# Altium footprint library Inductor.PcbLib: 13 footprints
Each footprint in its own frame and in the unit in brackets; x right, y up, seen from the top. Pads: shape width x height; smd on the part's side, far side on the other; paste and mask are expansions set on the pad; w line width, h text height; cw(c..) or ccw(c..) is an arc to the next point about the centre after c.
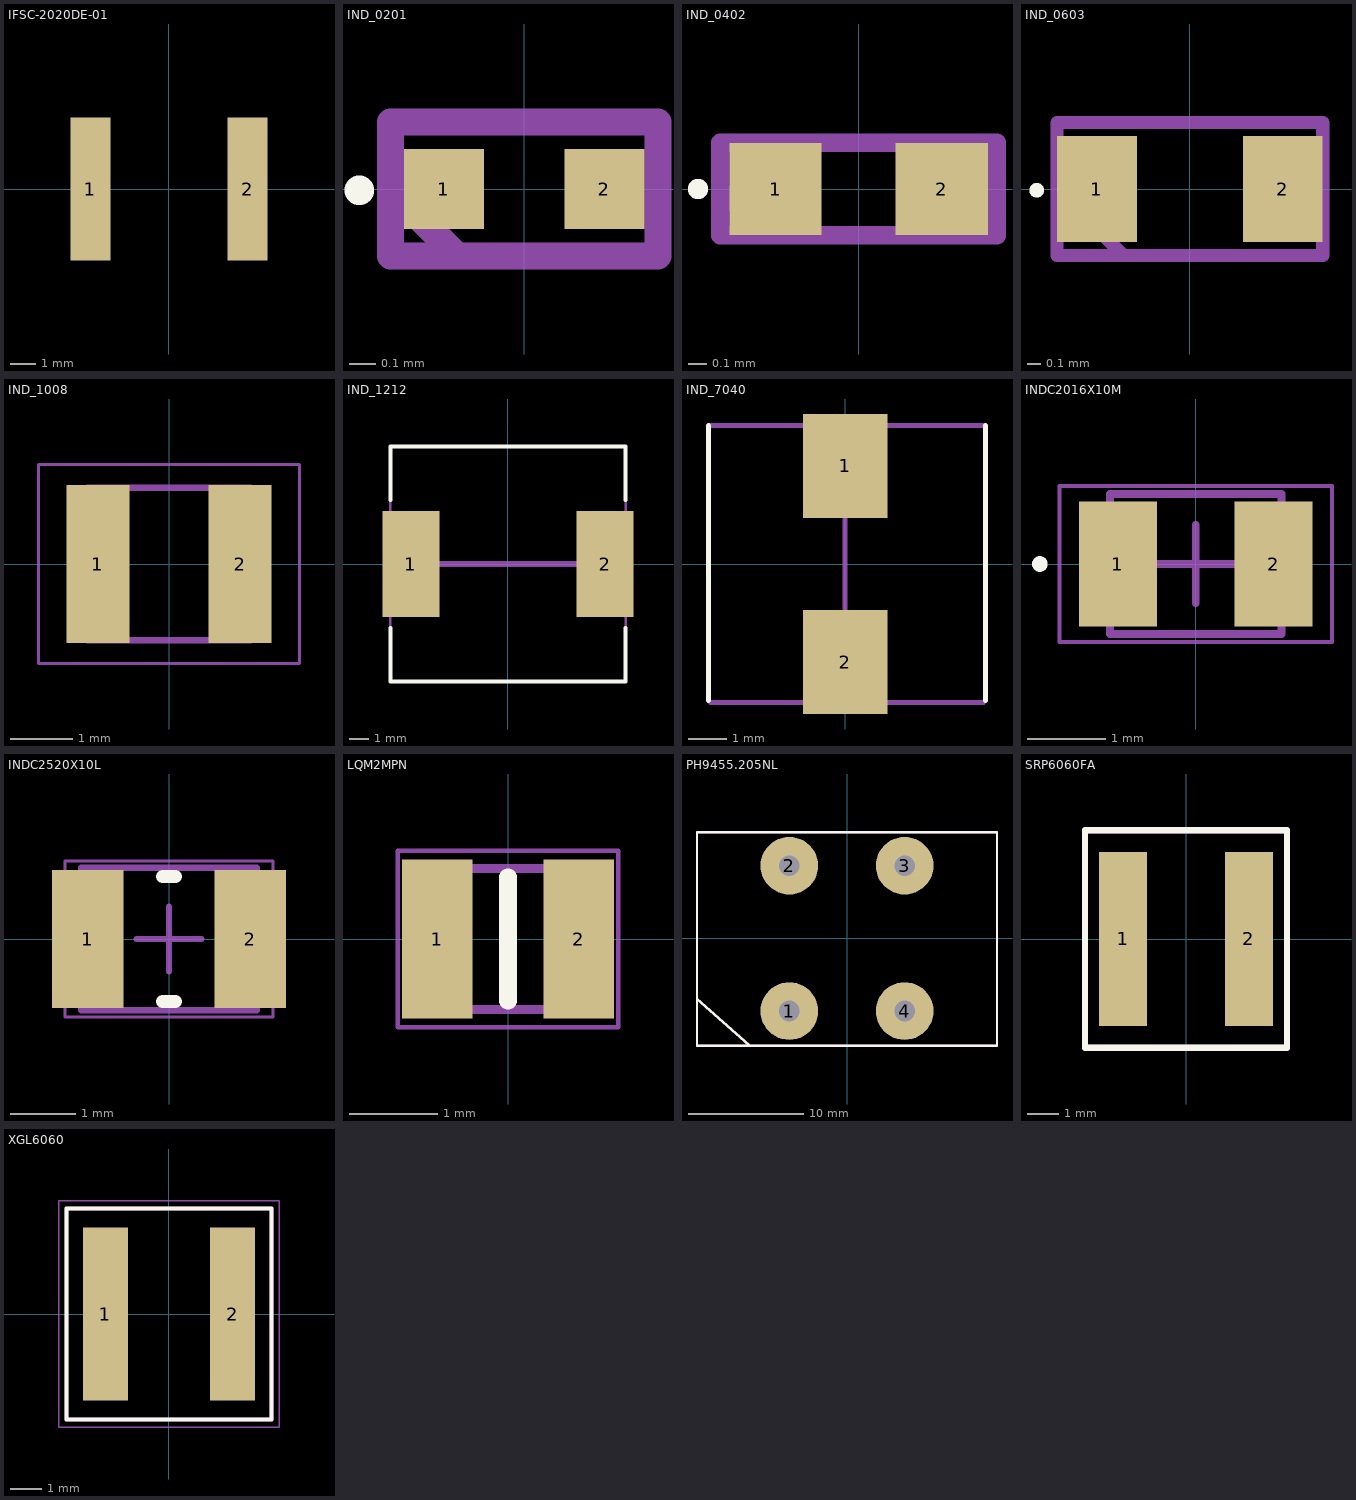
[diagram p0: the footprints below, top view; thin cyan lines are the x and y axes]

## IFSC-2020DE-01 [mm] "Semi-Shielded SMD Power Inductors"
pads (2):
  rect 1.6x5.7 smd: 1(-3.15,0) 2(3.15,0)
3D body "Download_STP_WE-LQS-6045_rev1.stp": height 4.55, standoff 0.05, extent -3,-3 3,3

## IND_0201 [mm]
pads (2):
  rect 0.3x0.3 smd mask-2539.97: 1(-0.3,0) 2(0.3,0)
Top Overlay:
  circle w0.1: c-0.616,-0.005 r0.005
Top Solder:
  region: -0.5,-0.2 -0.5,0.2 -0.1,0.2 -0.1,-0.2
  region: 0.1,-0.2 0.1,0.2 0.5,0.2 0.5,-0.2
Mechanical 13:
  lines w0.1: -0.5,0 -0.25,-0.25 ; -0.5,-0.25 -0.5,0.25 0.5,0.25 0.5,-0.25 -0.5,-0.25
Mechanical 15:
  lines w0.05: -0.5,-0.25 0.5,-0.25 0.5,0.25 -0.5,0.25 -0.5,-0.25
3D body "LQP03HQ4N7H02D.STEP": height 0.42, standoff 0, extent -0.3,-0.15 0.3,0.15

## IND_0402 [mm]
pads (2):
  rect 0.5x0.5 smd mask-2539.97: 1(-0.45,0) 2(0.45,0)
Top Overlay:
  circle w0.1: c-0.871,0 r0.005
Top Solder:
  region: 0.15,-0.3 0.15,0.3 0.75,0.3 0.75,-0.3
  region: -0.75,-0.3 -0.75,0.3 -0.15,0.3 -0.15,-0.3
Mechanical 13:
  lines w0.1: -0.75,0 -0.5,-0.25 ; -0.75,-0.25 0.75,-0.25 0.75,0.25 -0.75,0.25 -0.75,-0.25
Mechanical 15:
  lines w0.05: -0.75,-0.25 -0.75,0.25 0.75,0.25 0.75,-0.25 -0.75,-0.25
3D body "INDC1006X60N.step": height 0.6, standoff 0, extent -0.5,-0.3 0.5,0.3

## IND_0603 [mm]
pads (2):
  rect 0.6x0.8 smd mask-2539.97: 1(-0.7,0) 2(0.7,0)
Top Overlay:
  circle w0.1: c-1.154,-0.01 r0.005
Top Solder:
  region: -1.05,-0.45 -1.05,0.45 -0.35,0.45 -0.35,-0.45
  region: 0.35,-0.45 0.35,0.45 1.05,0.45 1.05,-0.45
Mechanical 13:
  lines w0.1: -1,0 -0.5,-0.5 ; -1,-0.5 -1,0.5 1,0.5 1,-0.5 -1,-0.5
Mechanical 15:
  lines w0.05: -1,-0.5 1,-0.5 1,0.5 -1,0.5 -1,-0.5
3D body "LQW18ASR15G0CD.step": height 1, standoff 0, extent -0.8,-0.4 0.8,0.4

## IND_1008 [mm]
pads (2):
  rect 1.015x2.54 smd: 1(-1.143,0) 2(1.143,0)
Mechanical 13:
  lines w0.1: -1.31,-1.225 1.31,-1.225 1.31,1.225 -1.31,1.225 -1.31,-1.225
Mechanical 15:
  lines w0.05: -2.1,-1.6 2.1,-1.6 2.1,1.6 -2.1,1.6 -2.1,-1.6
3D body "LQW2UASR15F00L.stp": height 2.03, standoff 0, extent -1.31,-1.225 1.31,1.225

## IND_1212 [mm]
pads (2):
  rect 2.9x5.4 smd: 1(-4.95,0) 2(4.95,0)
Top Overlay:
  lines w0.2: -6,-3.25 -6,-6 6,-6 6,-3.25 ; -6,3.25 -6,6 6,6 6,3.25
Mechanical 13:
  lines w0.127: -6,-6 -6,6 ; 6,-6 6,6
  lines w0.305: -4.95,0 4.95,0
3D body "7447709330.stp": height 8, standoff 0, extent -6,-6 6,6

## IND_7040 [mm]
pads (2):
  rect 2.2x2.7 smd: 1(0,2.55) 2(0,-2.55)
Top Overlay:
  lines w0.127: -3.55,-3.55 -3.55,3.6 ; 3.65,-3.55 3.65,3.6
Mechanical 13:
  lines w0.127: -3.5,-3.6 3.6,-3.6 ; -3.5,3.6 3.6,3.6 ; 0,-2.5 0,2.5
3D body "WE-HCI_7040_744311 (rev1).stp": height 4, standoff 0, extent -3.45,-3.5 3.45,3.5

## INDC2016X10M [mm] "Chip Inductor, 2-Leads, Body 2.00x1.60mm, IPC Low Density"
height 1
pads (2):
  rect 1x1.6 smd: 1(-1,0) 2(1,0)
Top Overlay:
  circle w0.1: c-2,0 r0.05
Mechanical 13:
  lines w0.1: -1.1,-0.9 -1.1,0.9 1.1,0.9 1.1,-0.9 -1.1,-0.9
Mechanical 15:
  lines w0.05: -1.75,-1 -1.75,1 1.75,1 1.75,-1 -1.75,-1
  lines w0.1: -0.5,0 0.5,0 ; 0,-0.5 0,0.5
3D body "AOTA-B201610S1R0MT.stp": height 1.1, standoff 0, extent -1.4,-0.8 1.4,0.8

## INDC2520X10L [mm] "Chip Inductor, 2-Leads, Body 2.50x2.00mm, IPC High Density"
height 1
pads (2):
  rect 1.1x2.12 smd: 1(-1.25,0) 2(1.25,0)
Top Overlay:
  lines w0.2: -0.1,-0.96 0.1,-0.96 ; -0.1,0.96 0.1,0.96
Mechanical 13:
  lines w0.1: -1.35,-1.1 -1.35,1.1 1.35,1.1 1.35,-1.1 -1.35,-1.1
Mechanical 15:
  lines w0.05: -1.6,-1.2 -1.6,1.2 1.6,1.2 1.6,-1.2 -1.6,-1.2
  lines w0.1: -0.5,0 0.5,0 ; 0,-0.5 0,0.5
3D body "INDC2520X10L.step": height 1, standoff 0, extent -1.35,-1.1 1.35,1.1

## LQM2MPN [mm] "0806 Chip Inductor"
pads (2):
  rect 0.8x1.8 smd: 1(-0.8,0) 2(0.8,0)
Top Overlay:
  lines w0.2: 0,-0.7 0,0.7
Mechanical 13:
  lines w0.1: -1,-0.8 -1,0.8 1,0.8 1,-0.8 -1,-0.8
Mechanical 15:
  lines w0.05: -1.25,-1 -1.25,1 1.25,1 1.25,-1 -1.25,-1
3D body "LQM2MPN2R2MG0L.stp": height 0.9, standoff 0, extent -1,-0.8 1,0.8

## PH9455.205NL [mm] "2.2 mH @ 8.39 MHz 2 Line Common Mode Choke Through Hole 2.6 kOhms @ 8.39 MHz 16A DCR 4.5mOhm"
pads (4):
  round 5 hole 1.8: 1(-5,-6.3) 2(-5,6.3) 3(5,6.3) 4(5,-6.3)
Top Overlay:
  lines w0.2: -13,-5.25 -8.5,-9.25 ; -13,-9.3 -13,9.2 13,9.2 13,-9.3 -13,-9.3
Mechanical 13:
  lines w0.2: -13,-9.3 13,-9.3 13,9.2 -13,9.2 -13,-9.3
3D body "PH9455.STEP": height 23.69, standoff -4.6, extent -12.797,-9.05 12.797,8.95

## SRP6060FA [mm]
pads (2):
  rect 1.55x5.6 smd: 1(-2.025,0) 2(2.025,0)
Top Overlay:
  lines w0.2: -3.25,-3.5 -3.25,3.5 3.25,3.5 3.25,-3.5 -3.25,-3.5
Mechanical 13:
  lines w0.2: -3.25,-3.5 -3.25,3.5 3.25,3.5 3.25,-3.5 -3.25,-3.5
Mechanical 15:
  lines w0.1: -3.25,-3.5 -3.25,3.5 3.25,3.5 3.25,-3.5 -3.25,-3.5
3D body "SRP6060FA-220M.stp": height 5.86, standoff 0, extent -3.2,-3.3 3.2,3.3

## XGL6060 [mm]
pads (2):
  rect 1.43x5.5 smd: 1(-2.02,0) 2(2.02,0)
Top Overlay:
  lines w0.127: -3.255,-3.355 3.255,-3.355 3.255,3.355 -3.255,3.355 -3.255,-3.355
Mechanical 13:
  lines w0.127: -3.255,-3.355 3.255,-3.355 3.255,3.355 -3.255,3.355 -3.255,-3.355
Mechanical 15:
  lines w0.05: -3.505,-3.605 3.505,-3.605 3.505,3.605 -3.505,3.605 -3.505,-3.605
3D body "Coilcraft-XGL6060.step": height 6.1, standoff 0, extent -3.355,-3.455 3.355,3.455